# Altium schematic symbol library nanoArduino.SchLib: 2 symbols
Pins are listed as number, name and electrical type; pins without a type are passive.

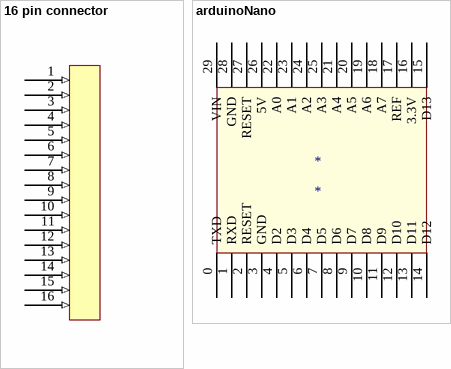
[diagram p0: symbols 16 pin connector to arduinoNano]

## 16 pin connector
designator D?, comment Bridge1
Full Wave Diode Bridge; Published: 8-Jun-2000; LatestRevisionDate: 29-May-2009; LatestRevisionNote: Sch pins A & K swapped.; DatasheetVersion: E2732B; PackageReference: D-38; Publisher: Altium Limited; PackageDescription: Bridge Rectifier; 4 Terminals; Body 9.4 x 9.4 mm (typ); Pitch 5.08 mm
footprint 16-pin
pins: 1 (in), 2 (in), 3 (in), 4 (in), 5 (in), 6 (in), 7 (in), 8 (in), 9 (in), 10 (in), 11 (in), 12 (in), 13 (in), 14 (in), 15 (in), 16 (in)

## arduinoNano
designator *
footprint Arduino nano (arduino nano)
pins: 0 TXD, 1 RXD, 2 RESET, 3 GND, 4 D2, 5 D3, 6 D4, 7 D5, 8 D6, 9 D7, 10 D8, 11 D9, 12 D10, 13 D11, 14 D12, 15 D13, 16 3.3V, 17 REF, 18 A7, 19 A6, 20 A5, 21 A4, 22 A0, 23 A1, 24 A2, 25 A3, 26 5V, 27 RESET, 28 GND, 29 VIN